# EAGLE library part ACJM (library audio)
ACJM-MHD dual mono 14/" jack plug
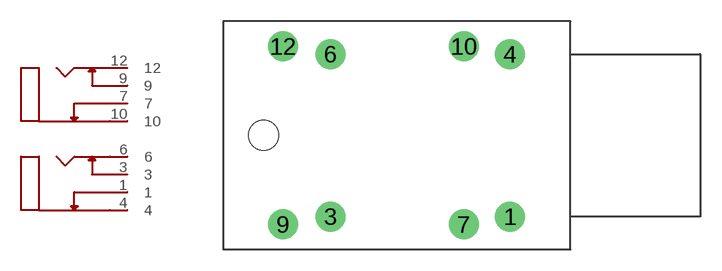
[diagram p0: symbol with the pads of MHD; footprint MHD]

Designator prefix -

## ACJMMHD  [MHD]
1  1
3  3
4  4
6  6
7  7
9  9
10  10
12  12

## Footprint MHD (pad centres in mm)
drill 1.4: 1 0,-5.7; 3 -12.6,-5.7; 4 0,5.7; 6 -12.6,5.7; 7 -3.25,-6.25; 9 -15.95,-6.25; 10 -3.25,6.25; 12 -15.95,6.25
hole 2.1 at -17.33,0